# Altium schematic symbol library testpoint.SchLib: 1 symbol
Pins are listed as number, name and electrical type; pins without a type are passive.

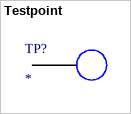
[diagram p0: symbol Testpoint]

## Testpoint
designator TP?  (no BOM)
footprint testpoint
pins: 1